# Altium footprint library ECU_pcb_lib.PcbLib: 36 footprints (part 3 of 3)
Each footprint in its own frame and in the unit in brackets; x right, y up, seen from the top. Pads: shape width x height; smd on the part's side, far side on the other; paste and mask are expansions set on the pad; w line width, h text height; cw(c..) or ccw(c..) is an arc to the next point about the centre after c.
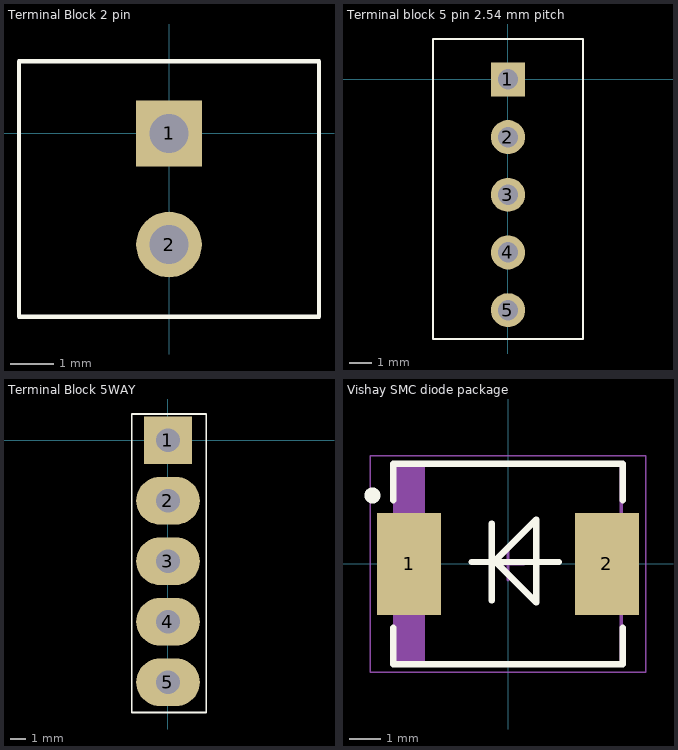
[diagram p2: the footprints below, top view; thin cyan lines are the x and y axes]

## Terminal Block 2 pin [mm]
pads (2):
  rect 1.5x1.5 hole 0.9: 1(0,0)
  round 1.5 hole 0.9: 2(0,-2.54)
Top Overlay:
  lines w0.1: -3.429,-4.191 3.429,-4.191 3.429,1.651 -3.429,1.651 -3.429,-4.191
3D body: height 10.02, standoff 0.02, extent -3.377,-4.167 3.123,1.373

## Terminal block 5 pin 2.54 mm pitch [mm]
pads (5):
  rect 1.5x1.5 hole 0.9: 1(0,0)
  round 1.5 hole 0.9: 2(0,-2.54) 3(0,-5.08) 4(0,-7.62) 5(0,-10.16)
Top Overlay:
  lines w0.1: -3.302,-11.43 -3.302,1.778 3.302,1.778 3.302,-11.43 1.27,-11.43 -3.302,-11.43
3D body: height 10.02, standoff 0.02, extent -3.175,-11.533 3.325,1.627

## Terminal Block 5WAY [mm]
pads (5):
  rect 3x3 hole 1.5: 1(0,0)
  oval 4x3 hole 1.5: 2(0,-3.81) 3(0,-7.62) 4(0,-11.43) 5(0,-15.24)
Top Overlay:
  lines w0.1: -2.286,-17.145 -2.286,1.651 2.413,1.651 2.413,-17.145 -2.286,-17.145
3D body: height 8.82, standoff 0.02, extent -3.065,-17.374 4.335,1.626

## Vishay SMC diode package [mm] "Molded Diode, 2-Leads, Body 6,85x5,90mm, IPC Medium Density"
height 2.62
pads (2):
  rect 2x3.2 smd: 1(-3.105,0) 2(3.105,0)
Top Overlay:
  circle w0.25: c-4.25,2.15 r0.125
  lines w0.2: -3.6,-2 -3.6,-3.15 3.6,-3.15 3.6,-2 ; -3.6,2 -3.6,3.15 3.6,3.15 3.6,2 ; -1.143,0.064 -0.508,0.064 ; -0.508,-1.143 -0.508,1.27 ; 1.587,0.064 -0.381,0.064 ; -0.381,0.064 0.889,-1.206 0.889,1.397 -0.381,0.127 ; -0.381,0.064 -0.381,0.127 ; -0.381,0.064 -0.381,0.127
Mechanical 13:
  rectangle: -3.555,-3.11 -2.599,3.11
  lines w0.1: -3.555,-3.11 3.555,-3.11 3.555,3.11 -3.555,3.11 -3.555,-3.11
Mechanical 15:
  lines w0.05: -4.325,-3.4 4.325,-3.4 4.325,3.4 -4.325,3.4 -4.325,-3.4
  lines w0.1: -0.5,0 0.5,0 ; 0,-0.5 0,0.5
3D body: height 2.62, standoff 0, extent -3.555,-3.11 3.555,3.11